# Altium schematic symbol library Schlib1.SchLib: 2 symbols
Pins are listed as number, name and electrical type; pins without a type are passive.

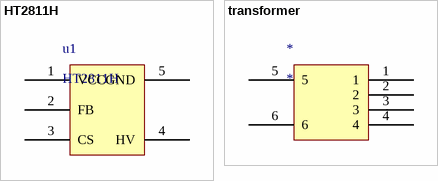
[diagram p0: symbols HT2811H to transformer]

## HT2811H
designator u1
pins: 1 VCC, 2 FB, 3 CS, 4 HV, 5 GND

## transformer
designator *
pins: 1, 2, 3, 4, 5, 6